# Altium footprint library ConnectorsLib.PcbLib: 142 footprints (part 9 of 9)
Each footprint in its own frame and in the unit in brackets; x right, y up, seen from the top. Pads: shape width x height; smd on the part's side, far side on the other; paste and mask are expansions set on the pad; w line width, h text height; cw(c..) or ccw(c..) is an arc to the next point about the centre after c.
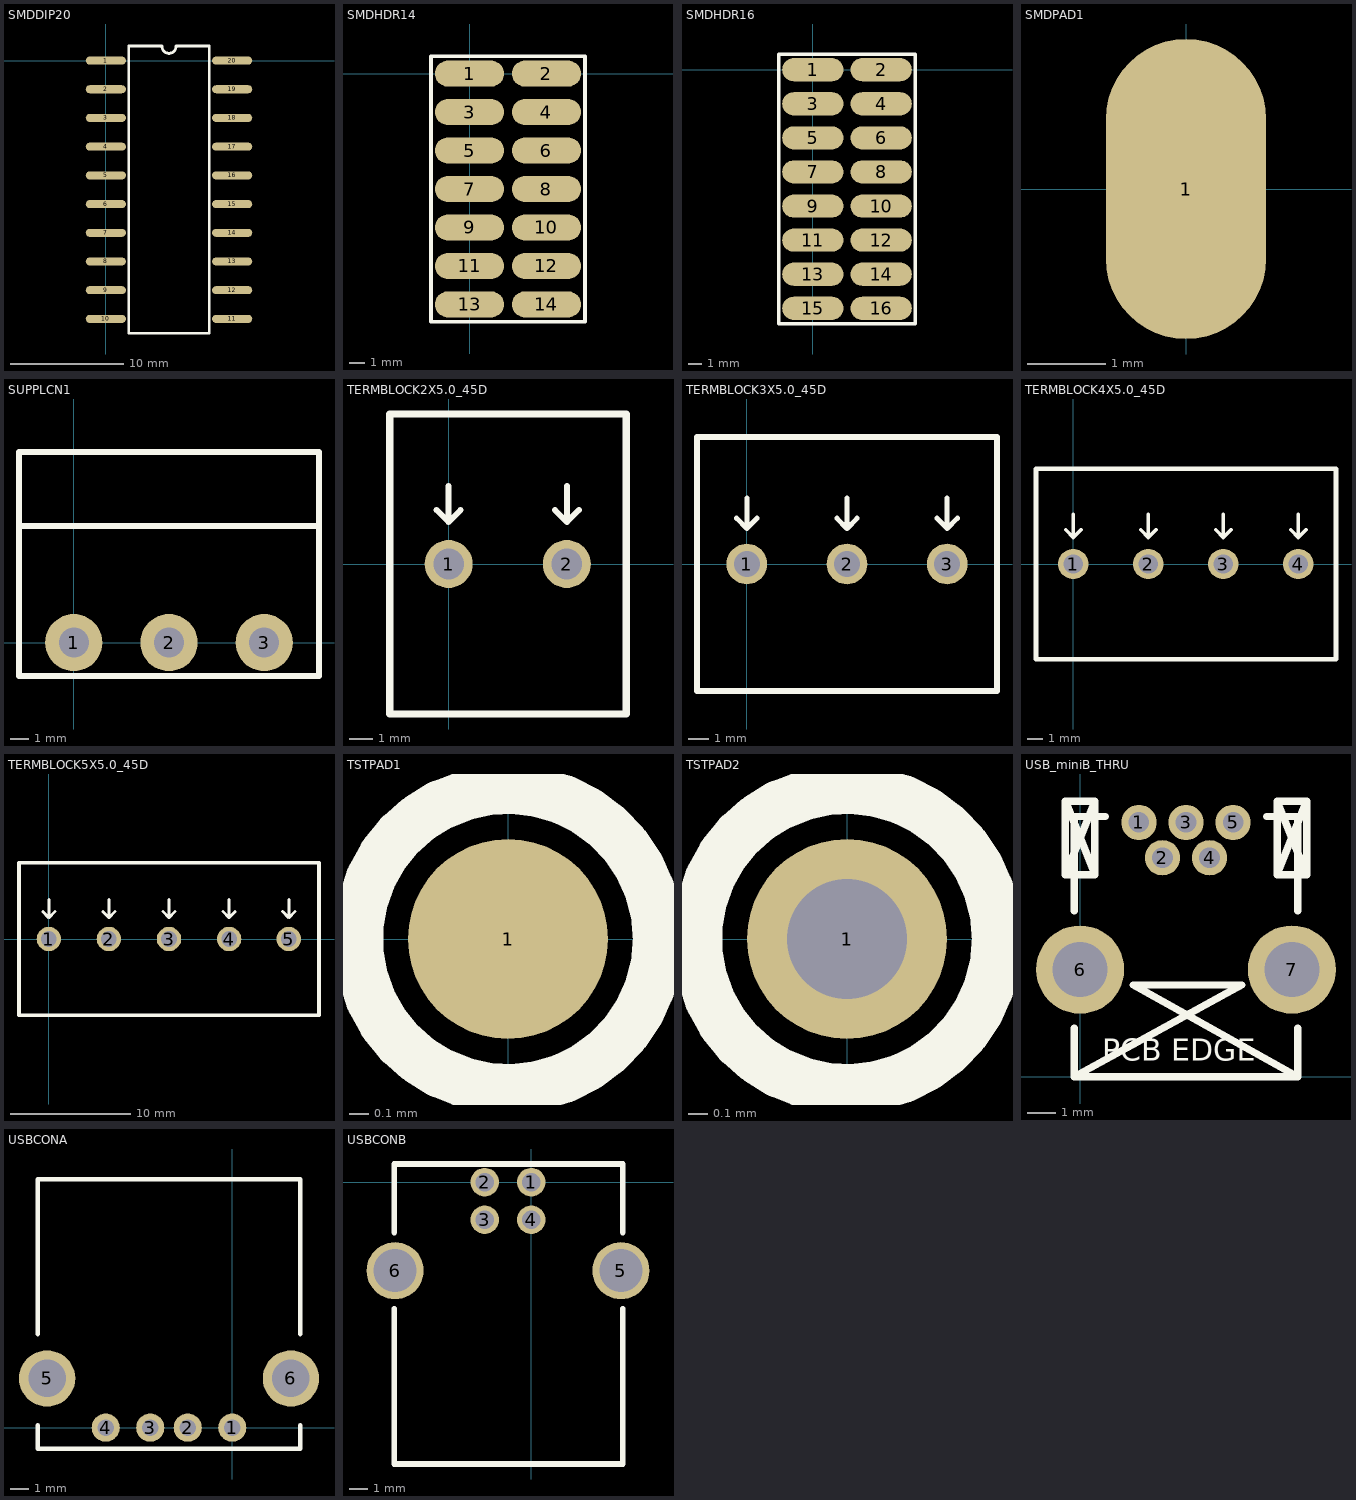
[diagram p8: the footprints below, top view; thin cyan lines are the x and y axes]

## SMDDIP20 [mil]
pads (20):
  oval 140x28 smd: 1(0,0) 2(0,-100) 3(0,-200) 4(0,-300) 5(0,-400) 6(0,-500) 7(0,-600) 8(0,-700) 9(0,-800) 10(0,-900) 11(440,-900) 12(440,-800) 13(440,-700) 14(440,-600) 15(440,-500) 16(440,-400) 17(440,-300) 18(440,-200) 19(440,-100) 20(440,0)
Top Overlay:
  lines w10: 80,-950 360,-950 360,50 245,50 cw(c220,50) 195,50 80,50 80,-950

## SMDHDR14 [mil]
pads (14):
  oval 180x68 smd: 1(0,0) 2(200,0) 3(0,-100) 4(200,-100) 5(0,-200) 6(200,-200) 7(0,-300) 8(200,-300) 9(0,-400) 10(200,-400) 11(0,-500) 12(200,-500) 13(0,-600) 14(200,-600)
Top Overlay:
  lines w10: -100,-645 -100,45 300,45 300,-645 -100,-645

## SMDHDR16 [mil]
pads (16):
  oval 180x68 smd: 1(0,0) 2(200,0) 3(0,-100) 4(200,-100) 5(0,-200) 6(200,-200) 7(0,-300) 8(200,-300) 9(0,-400) 10(200,-400) 11(0,-500) 12(200,-500) 13(0,-600) 14(200,-600) 15(0,-700) 16(200,-700)
Top Overlay:
  lines w10: -100,-745 -100,45 300,45 300,-745 -100,-745

## SMDPAD1 [mil]
pads (1):
  oval 80x150 smd: 1(0,0)

## SUPPLCN1 [mil]
pads (3):
  round 120 hole 63: 1(0,0) 2(200,0) 3(400,0)
Top Overlay:
  lines w12: -115,245 515,245 ; -115,-70 -115,400 515,400 515,-70 -115,-70

## TERMBLOCK2X5.0_45D [mil]
pads (2):
  round 80 hole 51: 1(0,0) 2(197,0)
Top Overlay:
  lines w10: -20,90 0,70 ; 0,130 0,70 ; 20,90 0,70 ; 177,90 197,70 ; 197,130 197,70 ; 217,90 197,70
  lines w12: -98,-250 -98,250 296,250 296,-250 -98,-250
3D body: height 589.04, standoff -9.22, extent -120.69,-247 299,246.78

## TERMBLOCK3X5.0_45D [mil]
pads (3):
  round 80 hole 51: 1(0,0) 2(197,0) 3(394,0)
Top Overlay:
  lines w10: -20,90 0,70 ; 0,130 0,70 ; 20,90 0,70 ; 177,90 197,70 ; 197,130 197,70 ; 217,90 197,70 ; 374,90 394,70 ; 394,130 394,70 ; 414,90 394,70
  lines w12: -98,-250 -98,250 492,250 492,-250 -98,-250
3D body: height 589.04, standoff -9.41, extent -123,-247 496.69,246.78

## TERMBLOCK4X5.0_45D [mil]
pads (4):
  round 80 hole 51: 1(0,0) 2(197,0) 3(394,0) 4(591,0)
Top Overlay:
  lines w10: -20,90 0,70 ; 0,130 0,70 ; 20,90 0,70 ; 177,90 197,70 ; 197,130 197,70 ; 217,90 197,70 ; 374,90 394,70 ; 394,130 394,70 ; 414,90 394,70 ; 571,90 591,70 ; 591,130 591,70 ; 611,90 591,70
  lines w12: -98,-250 690,-250 690,250 -98,250 -98,-250

## TERMBLOCK5X5.0_45D [mil]
pads (5):
  round 80 hole 51: 1(0,0) 2(197,0) 3(394,0) 4(591,0) 5(787,0)
Top Overlay:
  lines w10: -20,90 0,70 ; 0,130 0,70 ; 20,90 0,70 ; 177,90 197,70 ; 197,130 197,70 ; 217,90 197,70 ; 374,90 394,70 ; 394,130 394,70 ; 414,90 394,70 ; 571,90 591,70 ; 591,130 591,70 ; 611,90 591,70 ; 767,90 787,70 ; 787,130 787,70 ; 807,90 787,70
  lines w12: -98,-250 886,-250 886,250 -98,250 -98,-250
3D body: height 589.04, standoff -9.41, extent 271,-247 890.68,246.78
3D body: height 589.04, standoff -9.22, extent -120.69,-247 299,246.78

## TSTPAD1 [mil]
pads (1):
  round 40 smd: 1(0,0)
Top Overlay:
  circle w10: c0,0 r30

## TSTPAD2 [mil]
pads (1):
  round 40 hole 24: 1(0,0)
Top Overlay:
  circle w10: c0,0 r30

## USB_miniB_THRU [mil]
pads (7):
  round 48 hole 28: 1(80,346) 2(112,298) 3(144,346) 4(176,298) 5(208,346)
  round 120 hole 75: 6(0,146) 7(288,146)
Top Overlay:
  lines w10: -8,66 -8,0 ; -8,226 -8,354 34,354 ; 254,354 296,354 296,226 ; 296,66 296,0 ; -20,275 20,275 ; -20,275 -20,375 ; -20,275 20,375 ; -20,375 20,375 ; -20,375 20,275 ; -8,0 296,0 ; -8,0 220,125 72,125 296,0 ; 20,275 20,375 ; 268,275 308,275 ; 268,275 268,375 ; 268,275 308,375 ; 268,375 308,375 ; 268,375 308,275 ; 308,275 308,375
  text "PCB EDGE" at 30,22 h30
3D body: height 155.51, standoff -70.87, extent -7.88,-1.97 295.27,352.36

## USBCONA [mil]
pads (6):
  round 60 hole 35: 1(0,0) 2(-95,0) 3(-175,0) 4(-270,0)
  round 120 hole 80: 5(-395,105) 6(125,105)
Top Overlay:
  lines w10: -415,5 -415,-45 145,-45 145,5 ; -415,200 -415,530 145,530 145,200
3D body: height 297.24, standoff -149.41, extent -439.95,-44.29 178.15,518.7

## USBCONB [mil]
pads (6):
  round 60 hole 39: 1(0,0) 2(-98,0) 3(-98,-79) 4(0,-79)
  round 120 hole 90: 5(188,-186) 6(-286,-186)
Top Overlay:
  lines w12: -288,-266 -288,-592 192,-592 192,-266 ; -288,-106 -288,38 192,38 192,-106
3D body: height 452.76, standoff -126.77, extent -342.52,-591.53 244.04,50.2